# Altium footprint library 10-LDFN.PcbLib: 1 footprints
Each footprint in its own frame and in the unit in brackets; x right, y up, seen from the top. Pads: shape width x height; smd on the part's side, far side on the other; paste and mask are expansions set on the pad; w line width, h text height; cw(c..) or ccw(c..) is an arc to the next point about the centre after c.
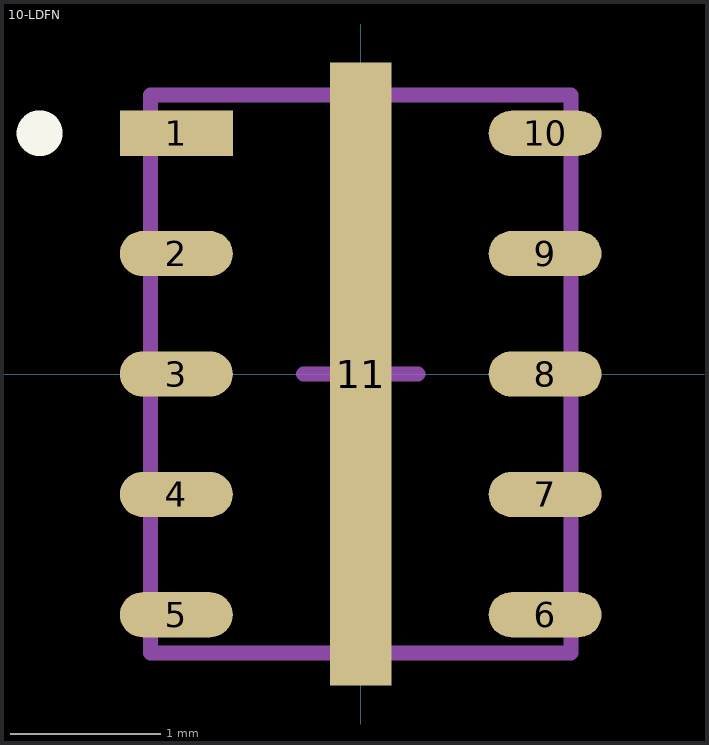
[diagram p0: the footprint, top view; thin cyan lines are the x and y axes]

## 10-LDFN [mm]
pads (11):
  rect 0.75x0.3 smd mask+0.051: 1(-1.225,1.6)
  oval 0.75x0.3 smd mask+0.051: 2(-1.225,0.8) 3(-1.225,0) 4(-1.225,-0.8) 5(-1.225,-1.6) 6(1.225,-1.6) 7(1.225,-0.8) 8(1.225,0) 9(1.225,0.8) 10(1.225,1.6)
  rect 0.406x4.14 smd mask+0.051: 11(0,0)
Top Overlay:
  circle w0.254: c-2.134,1.6 r0.025
Mechanical 13:
  lines w0.1: -1.397,-1.854 -1.397,1.854 1.397,1.854 1.397,-1.854 -1.397,-1.854
Mechanical 15:
  lines w0.1: 0,-0.381 0,0 ; 0,0 -0.381,0 0,0 ; 0,0 0,0.381 0,0 ; 0,0 0.381,0 0,0
3D body "10-LDFN.STEP": height 1.91, standoff 0.01, extent -1.4,-1.85 1.4,1.85